# Altium schematic symbol library Buck_Module_v2.SchLib: 1 symbol
Pins are listed as number, name and electrical type; pins without a type are passive.

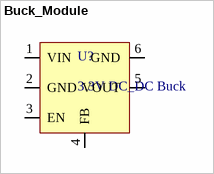
[diagram p0: symbol Buck_Module]

## Buck_Module
designator U?, comment 3.3V DC_DC Buck
FP for drop in 3.3 V buck
footprint PCBComponent_1
pins: 1 VIN, 2 GND, 3 EN, 4 FB, 5 VOUT, 6 GND